# EAGLE library part 1.8"_TFT (library tft_1_8_1_44_oled_0_96)
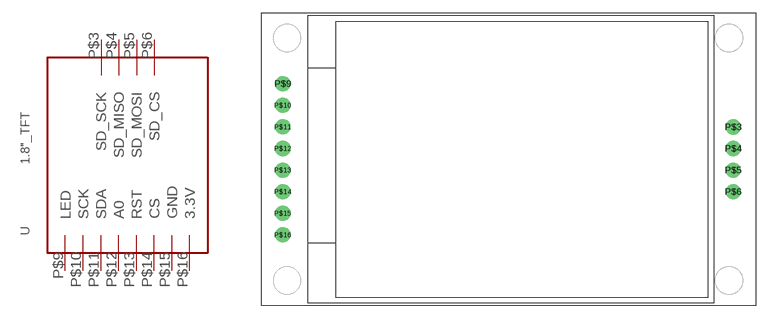
[diagram p0: symbol with the pads of 1.8"_TFT; footprint 1.8"_TFT]

Designator prefix -

## 1.8"_TFT  [1.8"_TFT]
P$3  SD_SCK
P$4  SD_MISO
P$5  SD_MOSI
P$6  SD_CS
P$9  LED
P$10  SCK
P$11  SDA
P$12  A0
P$13  RST
P$14  CS
P$15  GND
P$16  3.3V

## Footprint 1.8"_TFT (pad centres in mm)
1,8" TFT SPI 128*160 with SD
drill 1 pad 1.778: P$3 55.5,21.05; P$4 55.5,18.52; P$5 55.5,15.98; P$6 55.5,13.44; P$9 2.5,26.14; P$10 2.5,23.6; P$11 2.5,21.06; P$12 2.5,18.52; P$13 2.5,15.98; P$14 2.5,13.44; P$15 2.5,10.9; P$16 2.5,8.36